# EAGLE library part E6R (library _mtvl.resistor-sil)
SIL RESISTOR
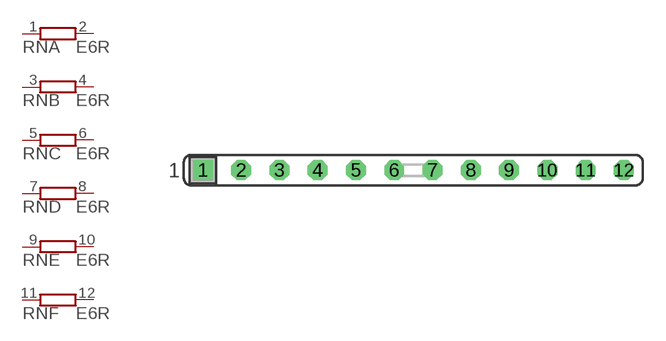
[diagram p11: symbol with the pads of SIL12; footprint SIL12]

Designator prefix RN; gates A=RNV B=RNV C=RNV D=RNV E=RNV F=RNV

## E6R (OC_FARNELL: unknown; OC_NEWARK: unknown)  [SIL12]
1  A:1  pas
2  A:2  pas
3  B:1  pas
4  B:2  pas
5  C:1  pas
6  C:2  pas
7  D:1  pas
8  D:2  pas
9  E:1  pas
10  E:2  pas
11  F:1  pas
12  F:2  pas

## Footprint SIL12 (pad centres in mm)
Single In Line
drill 0.813 square: 1 -13.97,0
drill 0.813 octagon: 2 -11.43,0; 3 -8.89,0; 4 -6.35,0; 5 -3.81,0; 6 -1.27,0; 7 1.27,0; 8 3.81,0; 9 6.35,0; 10 8.89,0; 11 11.43,0; 12 13.97,0